# EAGLE library part HEADER_5X2_1.27 (library bschulz_Old)
Header, 5x2, 1.27mm Pitch Used for prog header on Arduino M0
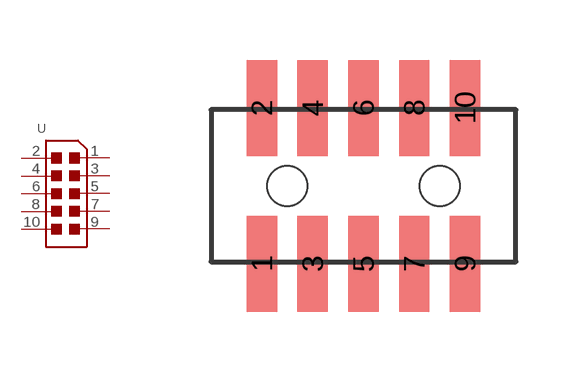
[diagram p1: symbol with the pads of HEADER_5X2_1.27; footprint HEADER_5X2_1.27]

Designator prefix -

## HEADER_5X2_1.27  [HEADER_5X2_1.27]
1  $2
2  $1
3  $4
4  $3
5  $6
6  $5
7  $8
8  $7
9  $10
10  $9

## Footprint HEADER_5X2_1.27 (pad centres in mm)
smd 0.76 x 2.4: 1 -2.54,-1.95; 2 -2.54,1.95; 3 -1.27,-1.95; 4 -1.27,1.95; 5 0,-1.95; 6 0,1.95; 7 1.27,-1.95; 8 1.27,1.95; 9 2.54,-1.95; 10 2.54,1.95
hole 1 at 1.905,0
hole 1 at -1.905,0